# EAGLE library part ATMEGA4809 (library we-chip)
Microchip ATmega3209/4809 AVR Microcontroller
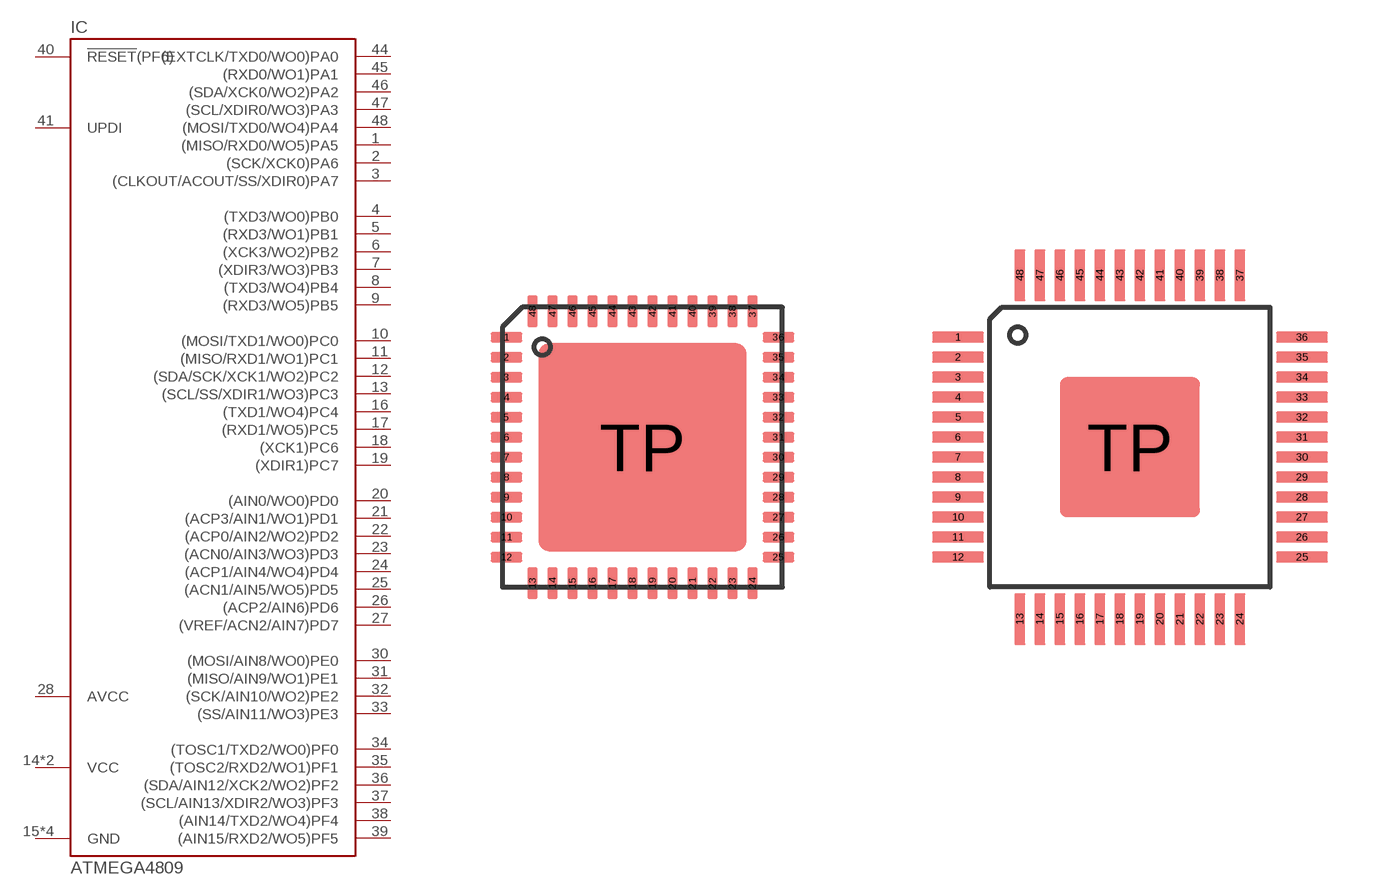
[diagram p50: symbol with the pads of QFN48-PAD; footprints QFN48-PAD, TQFP48-PAD]

Designator prefix IC

## ATMEGA4809-MFR  [QFN48-PAD]
1  (MISO/RXD0/WO5)PA5
2  (SCK/XCK0)PA6
3  (CLKOUT/ACOUT/SS/XDIR0)PA7
4  (TXD3/WO0)PB0
5  (RXD3/WO1)PB1
6  (XCK3/WO2)PB2
7  (XDIR3/WO3)PB3
8  (TXD3/WO4)PB4
9  (RXD3/WO5)PB5
10  (MOSI/TXD1/WO0)PC0
11  (MISO/RXD1/WO1)PC1
12  (SDA/SCK/XCK1/WO2)PC2
13  (SCL/SS/XDIR1/WO3)PC3
14  VCC  pwr
15  GND  pwr
16  (TXD1/WO4)PC4
17  (RXD1/WO5)PC5
18  (XCK1)PC6
19  (XDIR1)PC7
20  (AIN0/WO0)PD0
21  (ACP3/AIN1/WO1)PD1
22  (ACP0/AIN2/WO2)PD2
23  (ACN0/AIN3/WO3)PD3
24  (ACP1/AIN4/WO4)PD4
25  (ACN1/AIN5/WO5)PD5
26  (ACP2/AIN6)PD6
27  (VREF/ACN2/AIN7)PD7
28  AVCC  pwr
29  GND  pwr
30  (MOSI/AIN8/WO0)PE0
31  (MISO/AIN9/WO1)PE1
32  (SCK/AIN10/WO2)PE2
33  (SS/AIN11/WO3)PE3
34  (TOSC1/TXD2/WO0)PF0
35  (TOSC2/RXD2/WO1)PF1
36  (SDA/AIN12/XCK2/WO2)PF2
37  (SCL/AIN13/XDIR2/WO3)PF3
38  (AIN14/TXD2/WO4)PF4
39  (AIN15/RXD2/WO5)PF5
40  !RESET!(PF6)  in
41  UPDI
42  VCC  pwr
43  GND  pwr
44  (EXTCLK/TXD0/WO0)PA0
45  (RXD0/WO1)PA1
46  (SDA/XCK0/WO2)PA2
47  (SCL/XDIR0/WO3)PA3
48  (MOSI/TXD0/WO4)PA4
TP  GND  pwr

## ATMEGA4809-AFR  [TQFP48-PAD]
Pads as for QFN48-PAD

## Footprint QFN48-PAD (pad centres in mm)
smd 0.8 x 0.26: 1 -3.4,2.75; 2 -3.4,2.25; 3 -3.4,1.75; 4 -3.4,1.25; 5 -3.4,0.75; 6 -3.4,0.25; 7 -3.4,-0.25; 8 -3.4,-0.75; 9 -3.4,-1.25; 10 -3.4,-1.75; 11 -3.4,-2.25; 12 -3.4,-2.75; 25 3.4,-2.75; 26 3.4,-2.25; 27 3.4,-1.75; 28 3.4,-1.25; 29 3.4,-0.75; 30 3.4,-0.25; 31 3.4,0.25; 32 3.4,0.75; 33 3.4,1.25; 34 3.4,1.75; 35 3.4,2.25; 36 3.4,2.75
smd 0.26 x 0.8: 13 -2.75,-3.4; 14 -2.25,-3.4; 15 -1.75,-3.4; 16 -1.25,-3.4; 17 -0.75,-3.4; 18 -0.25,-3.4; 19 0.25,-3.4; 20 0.75,-3.4; 21 1.25,-3.4; 22 1.75,-3.4; 23 2.25,-3.4; 24 2.75,-3.4; 37 2.75,3.4; 38 2.25,3.4; 39 1.75,3.4; 40 1.25,3.4; 41 0.75,3.4; 42 0.25,3.4; 43 -0.25,3.4; 44 -0.75,3.4; 45 -1.25,3.4; 46 -1.75,3.4; 47 -2.25,3.4; 48 -2.75,3.4
smd 5.2 x 5.2: TP 0,0

## Footprint TQFP48-PAD (pad centres in mm)
smd 1.3 x 0.28: 1 -4.3,2.75; 2 -4.3,2.25; 3 -4.3,1.75; 4 -4.3,1.25; 5 -4.3,0.75; 6 -4.3,0.25; 7 -4.3,-0.25; 8 -4.3,-0.75; 9 -4.3,-1.25; 10 -4.3,-1.75; 11 -4.3,-2.25; 12 -4.3,-2.75; 25 4.3,-2.75; 26 4.3,-2.25; 27 4.3,-1.75; 28 4.3,-1.25; 29 4.3,-0.75; 30 4.3,-0.25; 31 4.3,0.25; 32 4.3,0.75; 33 4.3,1.25; 34 4.3,1.75; 35 4.3,2.25; 36 4.3,2.75
smd 0.28 x 1.3: 13 -2.75,-4.3; 14 -2.25,-4.3; 15 -1.75,-4.3; 16 -1.25,-4.3; 17 -0.75,-4.3; 18 -0.25,-4.3; 19 0.25,-4.3; 20 0.75,-4.3; 21 1.25,-4.3; 22 1.75,-4.3; 23 2.25,-4.3; 24 2.75,-4.3; 37 2.75,4.3; 38 2.25,4.3; 39 1.75,4.3; 40 1.25,4.3; 41 0.75,4.3; 42 0.25,4.3; 43 -0.25,4.3; 44 -0.75,4.3; 45 -1.25,4.3; 46 -1.75,4.3; 47 -2.25,4.3; 48 -2.75,4.3
smd 3.5 x 3.5: TP 0,0